# EAGLE library part IL300 (library ic-optoisolator)
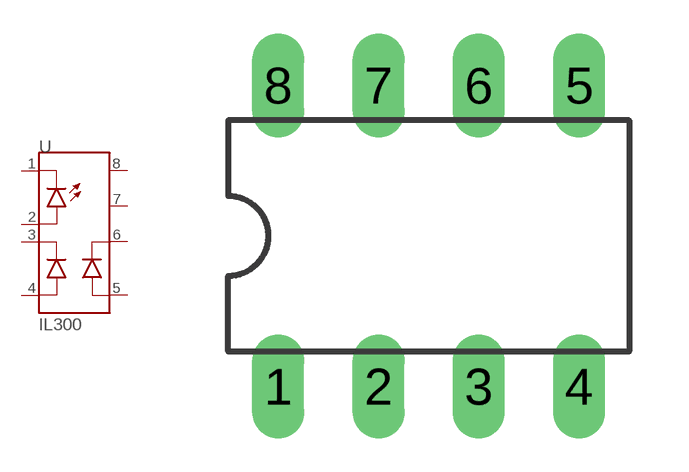
[diagram p0: symbol with the pads of DIL08; footprint DIL08]

Designator prefix U

## IL300  [DIL08]
1  C_LED  pas
2  A_LED  pas
3  C_FB  pas
4  A_FB  pas
5  A_OUT  pas
6  C_OUT  pas
7  PIN7  nc
8  PIN8  nc

## Footprint DIL08 (pad centres in mm)
drill 0.813 long: 1 -3.81,-3.81; 2 -1.27,-3.81; 3 1.27,-3.81; 4 3.81,-3.81; 5 3.81,3.81; 6 1.27,3.81; 7 -1.27,3.81; 8 -3.81,3.81